# Altium schematic symbol library Schlib1.SchLib: 2 symbols
Pins are listed as number, name and electrical type; pins without a type are passive.

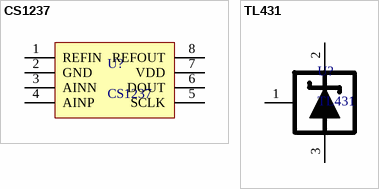
[diagram p0: symbols CS1237 to TL431]

## CS1237
designator U?
24-bit Sigma-Delta ADC
footprint SOP8_L6.0_W5.0_P1.27 (8脚，长x宽x高：6.0x5.0x1.8mm，脚距：1.27mm)
pins: 1 REFIN, 2 GND, 3 AINN, 4 AINP, 5 SCLK, 6 DOUT, 7 VDD, 8 REFOUT

## TL431
designator U?
footprint SOT23-3_L2.9_W1.3_P0.95 (3脚，长x宽x高：2.9x1.3x1.2mm，脚距：0.95mm)
pins: 1 REF, 2 CATHODE, 3 ANODE